# Altium footprint library transistor.PCBLIB: 58 footprints (part 1 of 4)
Each footprint in its own frame and in the unit in brackets; x right, y up, seen from the top. Pads: shape width x height; smd on the part's side, far side on the other; paste and mask are expansions set on the pad; w line width, h text height; cw(c..) or ccw(c..) is an arc to the next point about the centre after c.
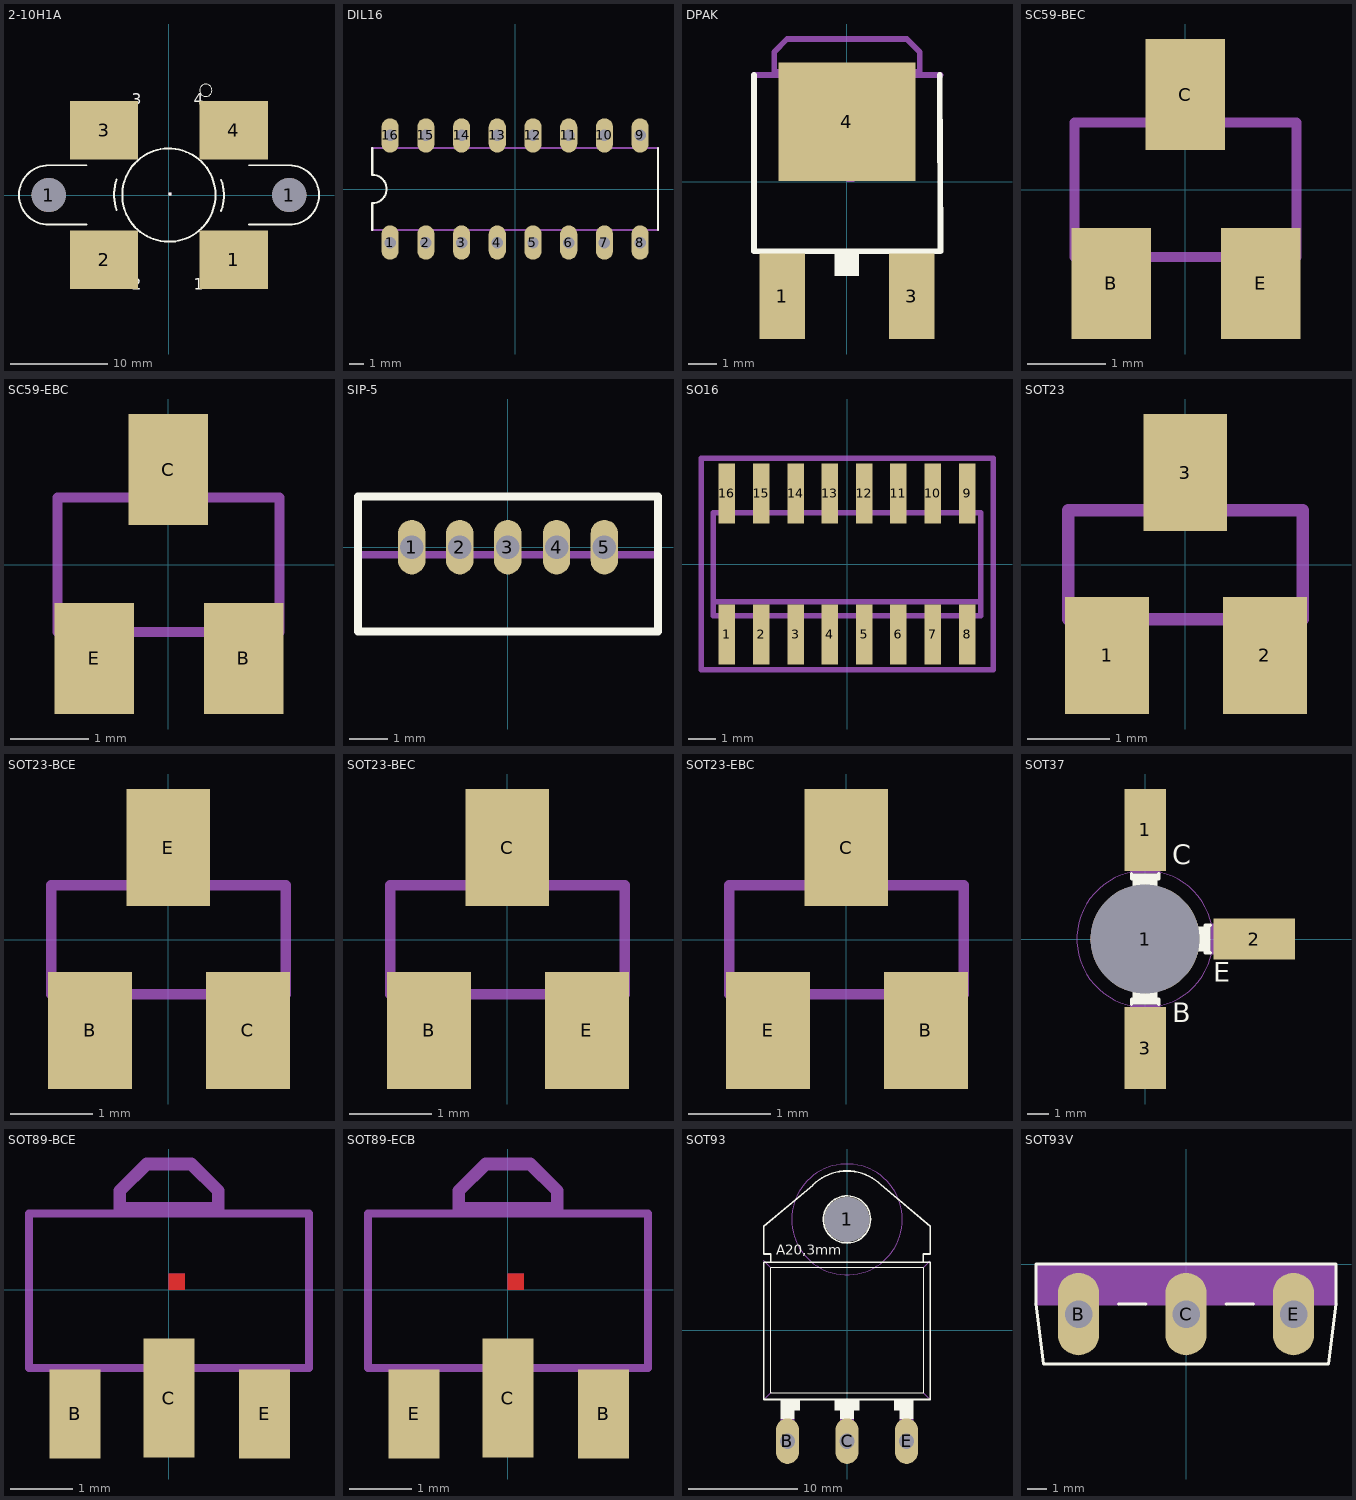
[diagram p0: the footprints below, top view; thin cyan lines are the x and y axes]

## 2-10H1A [mil]
pads (6):
  round 138 hole 138: 1(-487.2,0) 1(488,0)
  rect 276x237 smd: 1(263,-262.52) 2(-262.52,-262.52) 3(-262.52,263) 4(263,263)
Top Overlay:
  circle w8: c0,0 r189
  circle w0: c150,425 r25
  circle w0: c150,425 r25
  region: 0,0 10,0 10,10 0,10
  region: 0,0 10,0 10,10 0,10
  region: 0,0 10,0 10,10 0,10
  region: 0,0 10,0 10,10 0,10
  lines w8: -333.46,-120.08 -487.2,-120.08 cw(c-487.2,0.46) -487.2,121 -333.46,121 ; -211.61,-61.02 cw(c-39.11,1.49) -211.61,64 ; 212,-63.98 ccw(c38.18,-0.99) 212,62 ; 324,-120.08 488,-120.08 ccw(c488,0.46) 488,121 324,121
  text "1" at 100,-400 h77.5
  text "2" at -150,-400 h77.5
  text "3" at -150,350 h77.5
  text "4" at 100,350 h77.5
Top Solder:
  circle w0: c150,425 r25
Mechanical 16:
  region: 0,0 10,0 10,10 0,10
  region: 0,0 10,0 10,10 0,10
  region: 0,0 10,0 10,10 0,10
  region: 0,0 10,0 10,10 0,10

## DIL16 [mil]
pads (16):
  oval 48x96 hole 32: 1(-350,-150) 2(-250,-150) 3(-150,-150) 4(-50,-150) 5(50,-150) 6(150,-150) 7(250,-150) 8(350,-150) 9(350,150) 10(250,150) 11(150,150) 12(50,150) 13(-50,150) 14(-150,150) 15(-250,150) 16(-350,150)
Top Overlay:
  lines w6: -400,-115 -400,-40 ccw(c-400,0) -400,40 -400,115 ; 400,-115 400,115
Mechanical 16:
  lines w6: -400,-115 400,-115 ; -400,115 400,115

## DPAK [mil]
pads (3):
  rect 63x119 smd: 1(-89.76,-159.06) 3(90,-159.06)
  rect 190x165 smd: 4(0,83)
Top Overlay:
  rectangle: -17,-130.81 17,-100.81
  lines w8: -129,148 -129.02,-96.81 130,-96.81 129,148
Mechanical 16:
  rectangle: -107,-214.81 -73,-100.81
  rectangle: 73,-214.81 107,-100.81
  region: 0,0 10,0 10,10 0,10
  lines w8: -129.02,148 130,148 ; -101,152 -101,180 -83,198 83,198 101,180 101,152 -101,152

## SC59-BEC [mil]
pads (3):
  rect 40x56 smd: B(-37.4,-47.24) C(0,48) E(38,-47.24)
Mechanical 16:
  rectangle: -9,36 9,59
  rectangle: 28,-58.87 46,-35.87
  rectangle: -46,-58.87 -28,-35.87
  lines w5: -56,-33.87 56,-33.87 56,34 -56,34 -56,-33.87

## SC59-EBC [mil]
pads (3):
  rect 40x56 smd: B(38,-47.24) C(0,48) E(-37.4,-47.24)
Mechanical 16:
  rectangle: -9,36 9,59
  rectangle: 28,-58.87 46,-35.87
  rectangle: -46,-58.87 -28,-35.87
  lines w5: -56,-33.87 56,-33.87 56,34 -56,34 -56,-33.87

## SIP-5 [mil]
pads (5):
  oval 28x56 hole 24: 1(-98.43,0) 2(-49.21,0) 3(0,0) 4(50,0) 5(99,0)
Top Overlay:
  lines w8: -153.54,-86.61 154,-86.61 154,52 -153.54,52 -153.54,-86.61
Mechanical 16:
  lines w8: -153.54,-7.87 154,-7.87

## SO16 [mil]
pads (16):
  rect 24x87 smd: 1(-175,-102.36) 2(-125,-102.36) 3(-75,-102.36) 4(-25,-102.36) 5(25,-102.36) 6(75,-102.36) 7(125,-102.36) 8(175,-102.36) 9(175,103) 10(125,103) 11(75,103) 12(25,103) 13(-25,103) 14(-75,103) 15(-125,103) 16(-175,103)
Mechanical 16:
  rectangle: -184.65,-122.05 -165.35,-78.74
  rectangle: -134.65,-122.05 -115.35,-78.74
  rectangle: -84.65,-122.05 -65.35,-78.74
  rectangle: -34.65,-122.05 -15.35,-78.74
  rectangle: 66,79 85,123
  rectangle: 16,79 35,123
  rectangle: -34.65,79 -15.35,123
  rectangle: -84.65,79 -65.35,123
  rectangle: 16,-122.05 35,-78.74
  rectangle: 66,-122.05 85,-78.74
  rectangle: 116,-122.05 135,-78.74
  rectangle: 166,-122.05 185,-78.74
  rectangle: 166,79 185,123
  rectangle: 116,79 135,123
  rectangle: -134.65,79 -115.35,123
  rectangle: -184.65,79 -165.35,123
  lines w8: -194.49,-55.12 -194.49,-74.8 195,-74.8 195,-55.12 ; -194.49,-55.12 -194.49,75 195,75 195,-55.12 ; -194.49,-55.12 195,-55.12
Mechanical 27:
  lines w8: -212.4,-153.54 213,-153.54 213,154 -212.4,154 -212.4,-153.54

## SOT23 [mil]
pads (3):
  rect 40x56 smd: 1(-37.4,-43.31) 2(38,-43.31) 3(0,44)
Mechanical 16:
  rectangle: -9,28 9,51
  rectangle: 28,-51 46,-28
  rectangle: -46,-51 -28,-28
  lines w6: -56,-26 56,-26 56,26 -56,26 -56,-26

## SOT23-BCE [mil]
pads (3):
  rect 40x56 smd: B(-37.4,-43.31) C(38,-43.31) E(0,44)
Mechanical 16:
  rectangle: -9,28 9,51
  rectangle: 28,-51 46,-28
  rectangle: -46,-51 -28,-28
  lines w5: -56,-26 56,-26 56,26 -56,26 -56,-26

## SOT23-BEC [mil]
pads (3):
  rect 40x56 smd: B(-37.4,-43.31) C(0,44) E(38,-43.31)
Mechanical 16:
  rectangle: -9,28 9,51
  rectangle: 28,-51 46,-28
  rectangle: -46,-51 -28,-28
  lines w5: -56,-26 56,-26 56,26 -56,26 -56,-26

## SOT23-EBC [mil]
pads (3):
  rect 40x56 smd: B(38,-43.31) C(0,44) E(-37.4,-43.31)
Mechanical 16:
  rectangle: -9,28 9,51
  rectangle: 28,-51 46,-28
  rectangle: -46,-51 -28,-28
  lines w5: -56,-26 56,-26 56,26 -56,26 -56,-26

## SOT37 [mil]
pads (4):
  round 200 hole 200: 1(0,0)
  rect 76x150 smd: 1(0,200) 3(0,-200)
  rect 150x76 smd: 2(200,0)
Top Overlay:
  circle w6: c0,0 r90
  circle w6: c0,60 r20
  rectangle: -20,-110 20,-95
  rectangle: -25,-120 25,-110
  rectangle: 95,-20 110,20
  rectangle: 110,-25 120,25
  rectangle: -25,110 25,120
  rectangle: -20,95 20,110
  lines w6: -25,-120 -25,-110 -20,-110 -20,-88 ; -25,120 -25,110 -20,110 -20,88 ; 20,-88 20,-110 25,-110 25,-120 ; 20,88 20,110 25,110 25,120 ; 87,20 110,20 110,25 120,25 ; 88,-20 110,-20 110,-25 120,-25
  text "E" at 125,-90 h62
  text "B" at 50,-165 h62
  text "C" at 50,125 h62
Mechanical 8:
  circle w0: c0,0 r125
Mechanical 9:
  circle w0: c0,0 r125
Mechanical 12:
  text "5,1" at -60,-170 h77.5
Mechanical 16:
  rectangle: -25,-135 25,-120
  rectangle: -20,-210 20,-135
  rectangle: 120,-25 135,25
  rectangle: 135,-20 210,20
  rectangle: -20,135 20,255
  rectangle: -25,120 25,135
  lines w6: -25,-120 -25,-135 -20,-135 -20,-209 20,-209 20,-135 25,-135 25,-120 ; -25,120 -25,135 -20,135 -20,256 20,256 20,135 25,135 25,120 ; 120,-25 135,-25 135,-20 209,-20 209,20 135,20 135,25 120,25

## SOT89-BCE [mil]
pads (3):
  rect 32x56 smd: B(-59.02,-77.99) E(60,-77.99)
  rect 32x75 smd: C(0,-67.99)
Top Layer:
  region: 0,0 10,0 10,10 0,10
Top Paste:
  rectangle: -15.75,-105.51 16,-50.39
  region: 0,0 10,0 10,10 0,10
Top Solder:
  rectangle: -19.68,-109.45 20,-46.46
  region: 0,0 10,0 10,10 0,10
Mechanical 16:
  rectangle: -68,-83 -50,-50
  rectangle: 50,-83 68,-50
  rectangle: -11,-83 11,-50
  region: 0,0 10,0 10,10 0,10
  lines w5: -87.99,-49.02 88,-49.02 88,48 -87.99,48 -87.99,-49.02
  lines w8: -31,51 31,51 31,62 14,79 -14,79 -31,62 -31,51

## SOT89-ECB [mil]
pads (3):
  rect 32x56 smd: B(60,-77.99) E(-59.02,-77.99)
  rect 32x75 smd: C(0,-67.99)
Top Layer:
  region: 0,0 10,0 10,10 0,10
Top Paste:
  rectangle: -15.75,-105.51 16,-50.39
  region: 0,0 10,0 10,10 0,10
Top Solder:
  rectangle: -19.68,-109.45 20,-46.46
  region: 0,0 10,0 10,10 0,10
Mechanical 16:
  rectangle: -68,-83 -50,-50
  rectangle: 50,-83 68,-50
  rectangle: -11,-83 11,-50
  region: 0,0 10,0 10,10 0,10
  lines w5: -87.99,-49.02 88,-49.02 88,48 -87.99,48 -87.99,-49.02
  lines w8: -31,51 31,51 31,62 14,79 -14,79 -31,62 -31,51

## SOT93 [mil]
pads (4):
  round 162 hole 162: 1(0,400)
  oval 82.5x165 hole 55: B(-215,-400) C(0,-400) E(215,-400)
Top Overlay:
  circle w6: c0,400 r85
  rectangle: -240,-290 -170,-250
  rectangle: 170,-290 240,-250
  rectangle: -45,-290 45,-250
  rectangle: -240,-320 -190,-250
  rectangle: -25,-320 25,-250
  rectangle: 190,-320 240,-250
  lines w2: -275,-225 275,-225 275,225 -275,225 -275,-225
  lines w6: -123.74,524 cw(c-0.31,400.13) 0,575 cw(c0.44,399.82) 124,524 ; -123,524 -300,375 -300,275 -275,275 -275,245 ; 123,525 300,375 300,275 275,275 275,245 ; -275,245 -300,245 -300,-250 300,-250 300,245 275,245 ; -275,245 275,245
  text "A20,3mm" at -255,260 h62
Mechanical 9:
  circle w0: c0,400 r200
Mechanical 10:
  circle w0: c0,400 r200
Mechanical 16:
  rectangle: -240,-405 -190,-320
  rectangle: -25,-405 25,-320
  rectangle: 190,-405 240,-320
  lines w2: -300,-250 -275,-225 ; -300,250 -275,225 ; 275,-225 300,-250 ; 275,225 300,250

## SOT93V [mil]
pads (3):
  oval 82.5x165 hole 55: B(-215,-100) C(0,-100) E(215,-100)
Top Overlay:
  lines w6: -135,-80 -80,-80 ; 80,-80 135,-80 ; -300,-80 -300,0 300,0 300,-80 285,-200 -285,-200 -300,-80
Mechanical 16:
  rectangle: -300,-80 300,0
  lines w6: -300,-80 -135,-80 ; -80,-80 80,-80 ; 135,-80 300,-80